# Altium schematic symbol library ep4ce10_Library.SchLib: 2 symbols
Pins are listed as number, name and electrical type; pins without a type are passive.

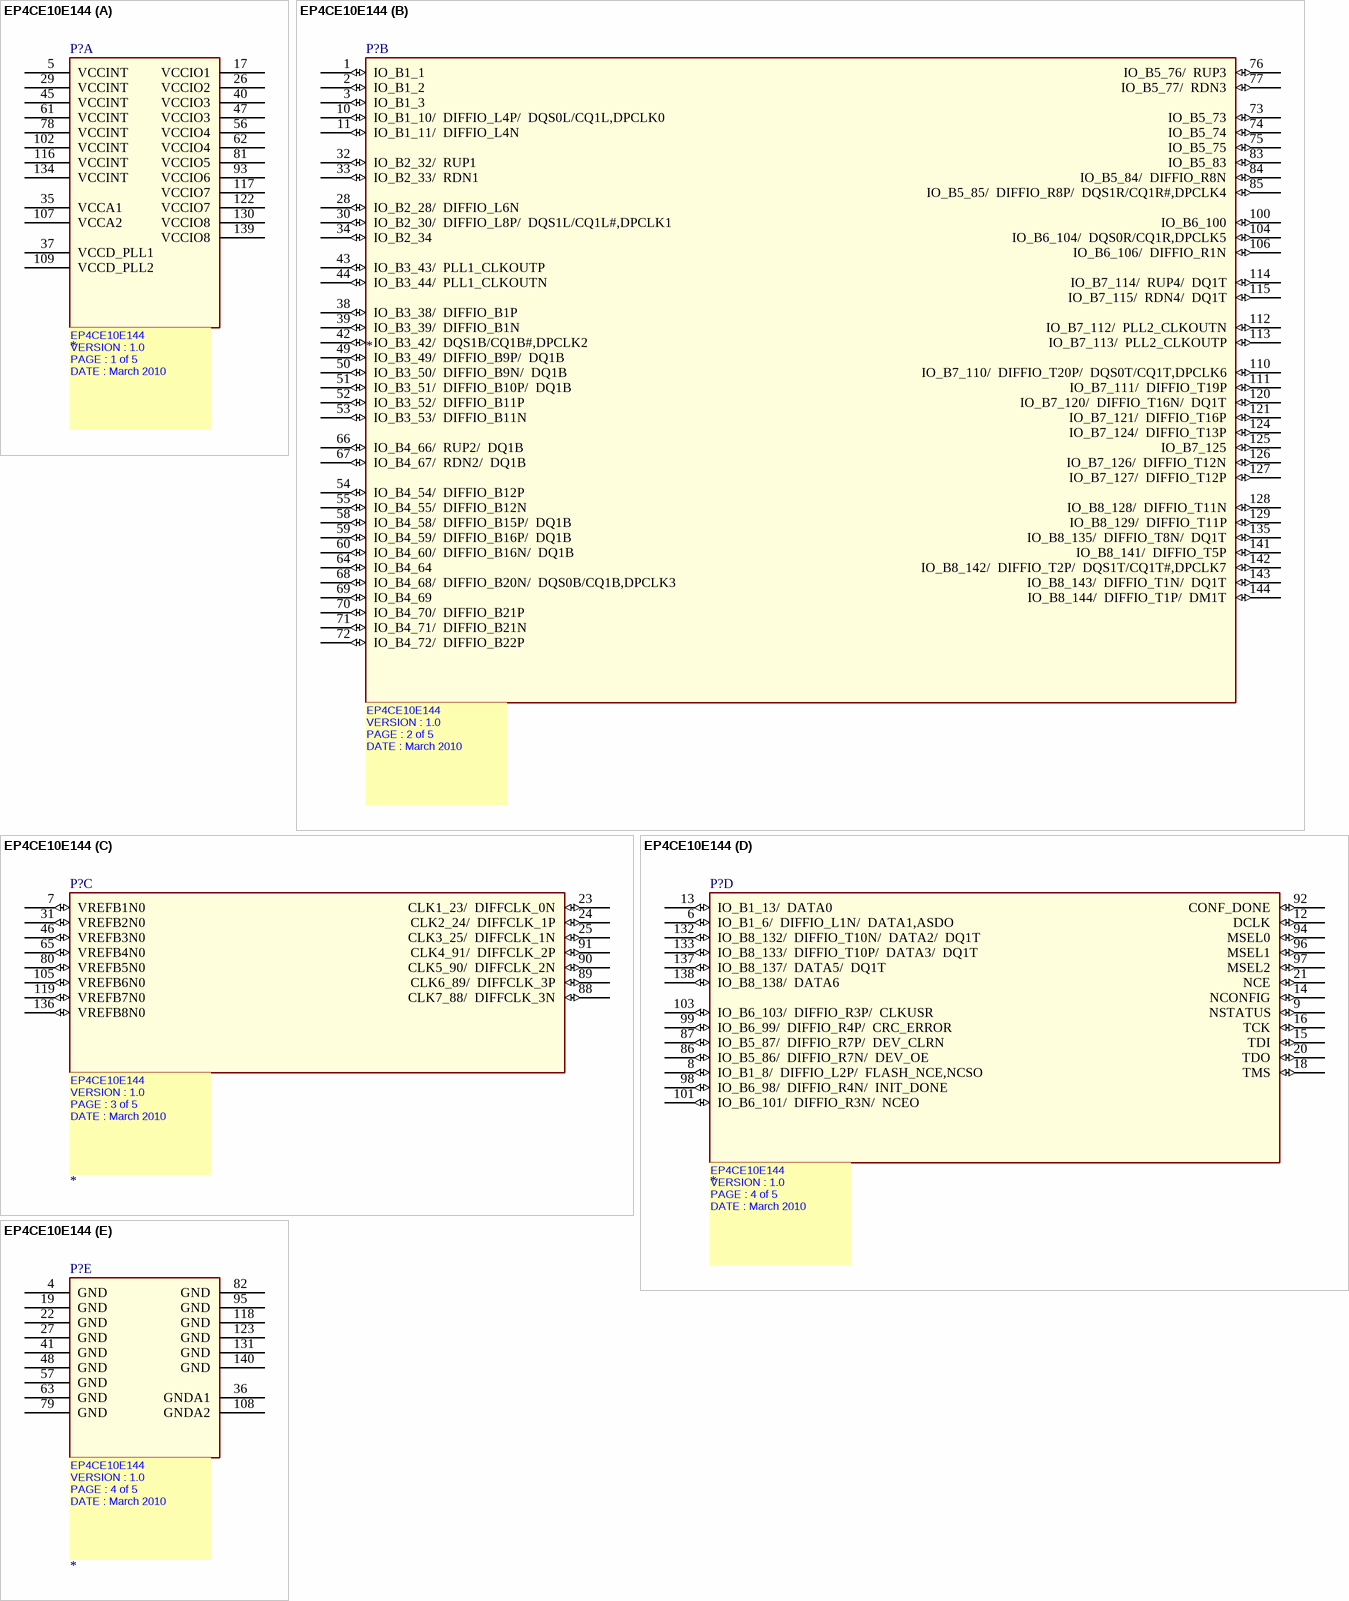
[diagram p0: symbol EP4CE10E144]

## EP4CE10E144
designator P?
SWAP_INFO: (S1+S2+S3+S4+S5); SPLIT_INST: TRUE
part A pins: 5 VCCINT (power), 17 VCCIO1 (power), 26 VCCIO2 (power), 29 VCCINT (power), 35 VCCA1 (power), 37 VCCD_PLL1 (power), 40 VCCIO3 (power), 45 VCCINT (power), 47 VCCIO3 (power), 56 VCCIO4 (power), 61 VCCINT (power), 62 VCCIO4 (power), 78 VCCINT (power), 81 VCCIO5 (power), 93 VCCIO6 (power), 102 VCCINT (power), 107 VCCA2 (power), 109 VCCD_PLL2 (power), 116 VCCINT (power), 117 VCCIO7 (power), 122 VCCIO7 (power), 130 VCCIO8 (power), 134 VCCINT (power), 139 VCCIO8 (power)
part B pins: 1 IO_B1_1 (io), 2 IO_B1_2 (io), 3 IO_B1_3 (io), 10 IO_B1_10/  DIFFIO_L4P/  DQS0L/CQ1L,DPCLK0 (io), 11 IO_B1_11/  DIFFIO_L4N (io), 28 IO_B2_28/  DIFFIO_L6N (io), 30 IO_B2_30/  DIFFIO_L8P/  DQS1L/CQ1L#,DPCLK1 (io), 32 IO_B2_32/  RUP1 (io), 33 IO_B2_33/  RDN1 (io), 34 IO_B2_34 (io), 38 IO_B3_38/  DIFFIO_B1P (io), 39 IO_B3_39/  DIFFIO_B1N (io), 42 IO_B3_42/  DQS1B/CQ1B#,DPCLK2 (io), 43 IO_B3_43/  PLL1_CLKOUTP (io), 44 IO_B3_44/  PLL1_CLKOUTN (io), 49 IO_B3_49/  DIFFIO_B9P/  DQ1B (io), 50 IO_B3_50/  DIFFIO_B9N/  DQ1B (io), 51 IO_B3_51/  DIFFIO_B10P/  DQ1B (io), 52 IO_B3_52/  DIFFIO_B11P (io), 53 IO_B3_53/  DIFFIO_B11N (io), 54 IO_B4_54/  DIFFIO_B12P (io), 55 IO_B4_55/  DIFFIO_B12N (io), 58 IO_B4_58/  DIFFIO_B15P/  DQ1B (io), 59 IO_B4_59/  DIFFIO_B16P/  DQ1B (io), 60 IO_B4_60/  DIFFIO_B16N/  DQ1B (io), 64 IO_B4_64 (io), 66 IO_B4_66/  RUP2/  DQ1B (io), 67 IO_B4_67/  RDN2/  DQ1B (io), 68 IO_B4_68/  DIFFIO_B20N/  DQS0B/CQ1B,DPCLK3 (io), 69 IO_B4_69 (io), 70 IO_B4_70/  DIFFIO_B21P (io), 71 IO_B4_71/  DIFFIO_B21N (io), 72 IO_B4_72/  DIFFIO_B22P (io), 73 IO_B5_73 (io), 74 IO_B5_74 (io), 75 IO_B5_75 (io), 76 IO_B5_76/  RUP3 (io), 77 IO_B5_77/  RDN3 (io), 83 IO_B5_83 (io), 84 IO_B5_84/  DIFFIO_R8N (io), 85 IO_B5_85/  DIFFIO_R8P/  DQS1R/CQ1R#,DPCLK4 (io), 100 IO_B6_100 (io), 104 IO_B6_104/  DQS0R/CQ1R,DPCLK5 (io), 106 IO_B6_106/  DIFFIO_R1N (io), 110 IO_B7_110/  DIFFIO_T20P/  DQS0T/CQ1T,DPCLK6 (io), 111 IO_B7_111/  DIFFIO_T19P (io), 112 IO_B7_112/  PLL2_CLKOUTN (io), 113 IO_B7_113/  PLL2_CLKOUTP (io), 114 IO_B7_114/  RUP4/  DQ1T (io), 115 IO_B7_115/  RDN4/  DQ1T (io), 120 IO_B7_120/  DIFFIO_T16N/  DQ1T (io), 121 IO_B7_121/  DIFFIO_T16P (io), 124 IO_B7_124/  DIFFIO_T13P (io), 125 IO_B7_125 (io), 126 IO_B7_126/  DIFFIO_T12N (io), 127 IO_B7_127/  DIFFIO_T12P (io), 128 IO_B8_128/  DIFFIO_T11N (io), 129 IO_B8_129/  DIFFIO_T11P (io), 135 IO_B8_135/  DIFFIO_T8N/  DQ1T (io), 141 IO_B8_141/  DIFFIO_T5P (io), 142 IO_B8_142/  DIFFIO_T2P/  DQS1T/CQ1T#,DPCLK7 (io), 143 IO_B8_143/  DIFFIO_T1N/  DQ1T (io), 144 IO_B8_144/  DIFFIO_T1P/  DM1T (io)
part C pins: 7 VREFB1N0 (io), 23 CLK1_23/  DIFFCLK_0N (io), 24 CLK2_24/  DIFFCLK_1P (io), 25 CLK3_25/  DIFFCLK_1N (io), 31 VREFB2N0 (io), 46 VREFB3N0 (io), 65 VREFB4N0 (io), 80 VREFB5N0 (io), 88 CLK7_88/  DIFFCLK_3N (io), 89 CLK6_89/  DIFFCLK_3P (io), 90 CLK5_90/  DIFFCLK_2N (io), 91 CLK4_91/  DIFFCLK_2P (io), 105 VREFB6N0 (io), 119 VREFB7N0 (io), 136 VREFB8N0 (io)
part D pins: 6 IO_B1_6/  DIFFIO_L1N/  DATA1,ASDO (io), 8 IO_B1_8/  DIFFIO_L2P/  FLASH_NCE,NCSO (io), 9 NSTATUS (io), 12 DCLK (io), 13 IO_B1_13/  DATA0 (io), 14 NCONFIG (io), 15 TDI (io), 16 TCK (io), 18 TMS (io), 20 TDO (io), 21 NCE (io), 86 IO_B5_86/  DIFFIO_R7N/  DEV_OE (io), 87 IO_B5_87/  DIFFIO_R7P/  DEV_CLRN (io), 92 CONF_DONE (io), 94 MSEL0 (io), 96 MSEL1 (io), 97 MSEL2 (io), 98 IO_B6_98/  DIFFIO_R4N/  INIT_DONE (io), 99 IO_B6_99/  DIFFIO_R4P/  CRC_ERROR (io), 101 IO_B6_101/  DIFFIO_R3N/  NCEO (io), 103 IO_B6_103/  DIFFIO_R3P/  CLKUSR (io), 132 IO_B8_132/  DIFFIO_T10N/  DATA2/  DQ1T (io), 133 IO_B8_133/  DIFFIO_T10P/  DATA3/  DQ1T (io), 137 IO_B8_137/  DATA5/  DQ1T (io), 138 IO_B8_138/  DATA6 (io)
part E pins: 4 GND (power), 19 GND (power), 22 GND (power), 27 GND (power), 36 GNDA1 (power), 41 GND (power), 48 GND (power), 57 GND (power), 63 GND (power), 79 GND (power), 82 GND (power), 95 GND (power), 108 GNDA2 (power), 118 GND (power), 123 GND (power), 131 GND (power), 140 GND (power)
part A text: EP4CE10E144 / VERSION : 1.0 / PAGE : 1 of 5 / DATE : March 2010 /
part B text: EP4CE10E144 / VERSION : 1.0 / PAGE : 2 of 5 / DATE : March 2010 /
part C text: EP4CE10E144 / VERSION : 1.0 / PAGE : 3 of 5 / DATE : March 2010 /
part D text: EP4CE10E144 / VERSION : 1.0 / PAGE : 4 of 5 / DATE : March 2010 /
part E text: EP4CE10E144 / VERSION : 1.0 / PAGE : 4 of 5 / DATE : March 2010 /

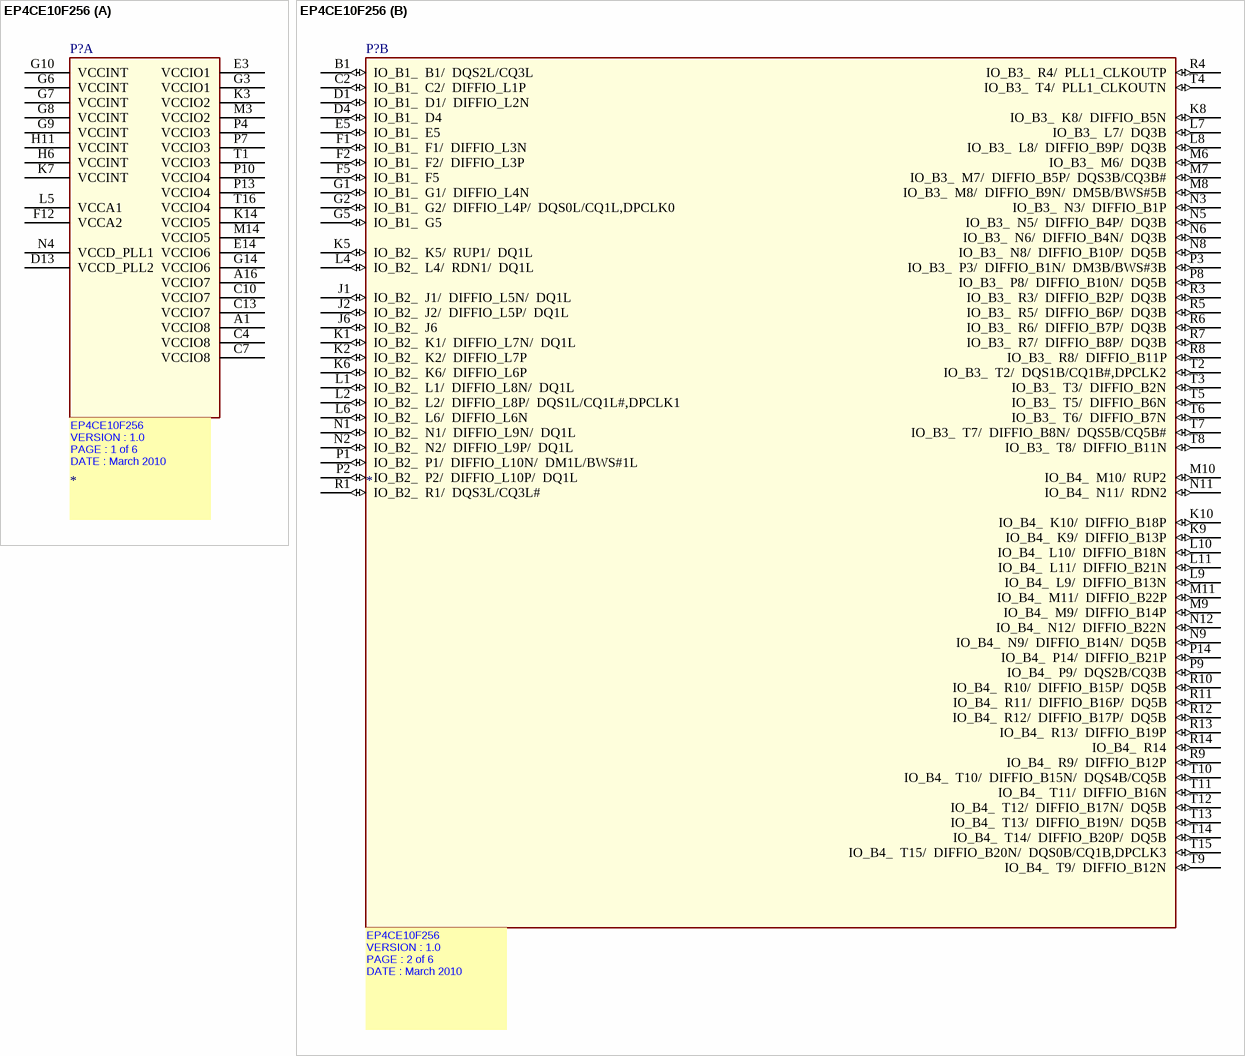
[diagram p1: symbol EP4CE10F256]

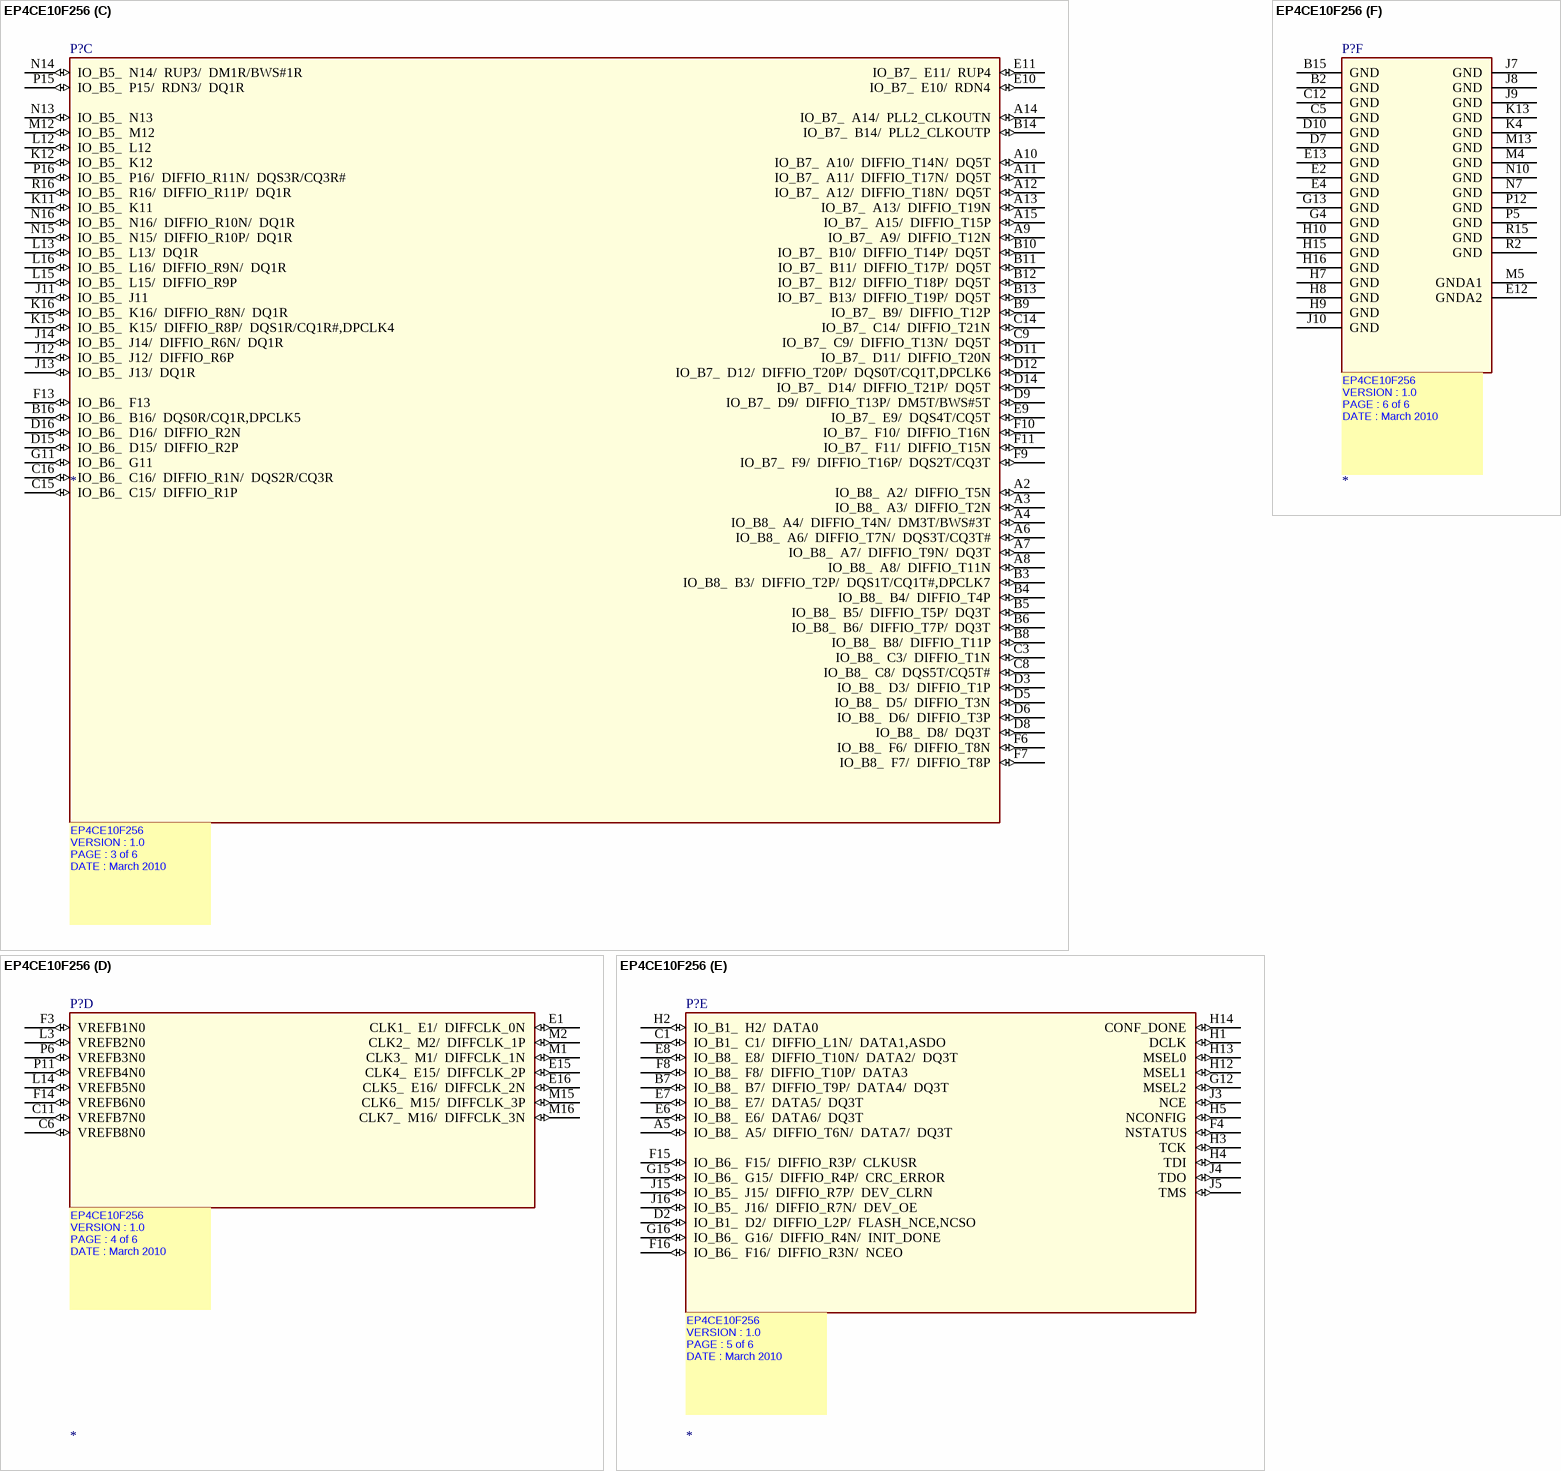
[diagram p2: symbol EP4CE10F256]

## EP4CE10F256
designator P?
SPLIT_INST: TRUE; SWAP_INFO: (S1+S2+S3+S4+S5+S6)
part A pins: A1 VCCIO8 (power), A16 VCCIO7 (power), C4 VCCIO8 (power), C7 VCCIO8 (power), C10 VCCIO7 (power), C13 VCCIO7 (power), D13 VCCD_PLL2 (power), E3 VCCIO1 (power), E14 VCCIO6 (power), F12 VCCA2 (power), G3 VCCIO1 (power), G6 VCCINT (power), G7 VCCINT (power), G8 VCCINT (power), G9 VCCINT (power), G10 VCCINT (power), G14 VCCIO6 (power), H6 VCCINT (power), H11 VCCINT (power), K3 VCCIO2 (power), K7 VCCINT (power), K14 VCCIO5 (power), L5 VCCA1 (power), M3 VCCIO2 (power), M14 VCCIO5 (power), N4 VCCD_PLL1 (power), P4 VCCIO3 (power), P7 VCCIO3 (power), P10 VCCIO4 (power), P13 VCCIO4 (power), T1 VCCIO3 (power), T16 VCCIO4 (power)
part B pins: B1 IO_B1_  B1/  DQS2L/CQ3L (io), C2 IO_B1_  C2/  DIFFIO_L1P (io), D1 IO_B1_  D1/  DIFFIO_L2N (io), D4 IO_B1_  D4 (io), E5 IO_B1_  E5 (io), F1 IO_B1_  F1/  DIFFIO_L3N (io), F2 IO_B1_  F2/  DIFFIO_L3P (io), F5 IO_B1_  F5 (io), G1 IO_B1_  G1/  DIFFIO_L4N (io), G2 IO_B1_  G2/  DIFFIO_L4P/  DQS0L/CQ1L,DPCLK0 (io), G5 IO_B1_  G5 (io), J1 IO_B2_  J1/  DIFFIO_L5N/  DQ1L (io), J2 IO_B2_  J2/  DIFFIO_L5P/  DQ1L (io), J6 IO_B2_  J6 (io), K1 IO_B2_  K1/  DIFFIO_L7N/  DQ1L (io), K2 IO_B2_  K2/  DIFFIO_L7P (io), K5 IO_B2_  K5/  RUP1/  DQ1L (io), K6 IO_B2_  K6/  DIFFIO_L6P (io), K8 IO_B3_  K8/  DIFFIO_B5N (io), K9 IO_B4_  K9/  DIFFIO_B13P (io), K10 IO_B4_  K10/  DIFFIO_B18P (io), L1 IO_B2_  L1/  DIFFIO_L8N/  DQ1L (io), L2 IO_B2_  L2/  DIFFIO_L8P/  DQS1L/CQ1L#,DPCLK1 (io), L4 IO_B2_  L4/  RDN1/  DQ1L (io), L6 IO_B2_  L6/  DIFFIO_L6N (io), L7 IO_B3_  L7/  DQ3B (io), L8 IO_B3_  L8/  DIFFIO_B9P/  DQ3B (io), L9 IO_B4_  L9/  DIFFIO_B13N (io), L10 IO_B4_  L10/  DIFFIO_B18N (io), L11 IO_B4_  L11/  DIFFIO_B21N (io), M6 IO_B3_  M6/  DQ3B (io), M7 IO_B3_  M7/  DIFFIO_B5P/  DQS3B/CQ3B# (io), M8 IO_B3_  M8/  DIFFIO_B9N/  DM5B/BWS#5B (io), M9 IO_B4_  M9/  DIFFIO_B14P (io), M10 IO_B4_  M10/  RUP2 (io), M11 IO_B4_  M11/  DIFFIO_B22P (io), N1 IO_B2_  N1/  DIFFIO_L9N/  DQ1L (io), N2 IO_B2_  N2/  DIFFIO_L9P/  DQ1L (io), N3 IO_B3_  N3/  DIFFIO_B1P (io), N5 IO_B3_  N5/  DIFFIO_B4P/  DQ3B (io), N6 IO_B3_  N6/  DIFFIO_B4N/  DQ3B (io), N8 IO_B3_  N8/  DIFFIO_B10P/  DQ5B (io), N9 IO_B4_  N9/  DIFFIO_B14N/  DQ5B (io), N11 IO_B4_  N11/  RDN2 (io), N12 IO_B4_  N12/  DIFFIO_B22N (io), P1 IO_B2_  P1/  DIFFIO_L10N/  DM1L/BWS#1L (io), P2 IO_B2_  P2/  DIFFIO_L10P/  DQ1L (io), P3 IO_B3_  P3/  DIFFIO_B1N/  DM3B/BWS#3B (io), P8 IO_B3_  P8/  DIFFIO_B10N/  DQ5B (io), P9 IO_B4_  P9/  DQS2B/CQ3B (io), P14 IO_B4_  P14/  DIFFIO_B21P (io), R1 IO_B2_  R1/  DQS3L/CQ3L# (io), R3 IO_B3_  R3/  DIFFIO_B2P/  DQ3B (io), R4 IO_B3_  R4/  PLL1_CLKOUTP (io), R5 IO_B3_  R5/  DIFFIO_B6P/  DQ3B (io), R6 IO_B3_  R6/  DIFFIO_B7P/  DQ3B (io), R7 IO_B3_  R7/  DIFFIO_B8P/  DQ3B (io), R8 IO_B3_  R8/  DIFFIO_B11P (io), R9 IO_B4_  R9/  DIFFIO_B12P (io), R10 IO_B4_  R10/  DIFFIO_B15P/  DQ5B (io), R11 IO_B4_  R11/  DIFFIO_B16P/  DQ5B (io), R12 IO_B4_  R12/  DIFFIO_B17P/  DQ5B (io), R13 IO_B4_  R13/  DIFFIO_B19P (io), R14 IO_B4_  R14 (io), T2 IO_B3_  T2/  DQS1B/CQ1B#,DPCLK2 (io), T3 IO_B3_  T3/  DIFFIO_B2N (io), T4 IO_B3_  T4/  PLL1_CLKOUTN (io), T5 IO_B3_  T5/  DIFFIO_B6N (io), T6 IO_B3_  T6/  DIFFIO_B7N (io), T7 IO_B3_  T7/  DIFFIO_B8N/  DQS5B/CQ5B# (io), T8 IO_B3_  T8/  DIFFIO_B11N (io), T9 IO_B4_  T9/  DIFFIO_B12N (io), T10 IO_B4_  T10/  DIFFIO_B15N/  DQS4B/CQ5B (io), T11 IO_B4_  T11/  DIFFIO_B16N (io), T12 IO_B4_  T12/  DIFFIO_B17N/  DQ5B (io), T13 IO_B4_  T13/  DIFFIO_B19N/  DQ5B (io), T14 IO_B4_  T14/  DIFFIO_B20P/  DQ5B (io), T15 IO_B4_  T15/  DIFFIO_B20N/  DQS0B/CQ1B,DPCLK3 (io)
part C pins: A2 IO_B8_  A2/  DIFFIO_T5N (io), A3 IO_B8_  A3/  DIFFIO_T2N (io), A4 IO_B8_  A4/  DIFFIO_T4N/  DM3T/BWS#3T (io), A6 IO_B8_  A6/  DIFFIO_T7N/  DQS3T/CQ3T# (io), A7 IO_B8_  A7/  DIFFIO_T9N/  DQ3T (io), A8 IO_B8_  A8/  DIFFIO_T11N (io), A9 IO_B7_  A9/  DIFFIO_T12N (io), A10 IO_B7_  A10/  DIFFIO_T14N/  DQ5T (io), A11 IO_B7_  A11/  DIFFIO_T17N/  DQ5T (io), A12 IO_B7_  A12/  DIFFIO_T18N/  DQ5T (io), A13 IO_B7_  A13/  DIFFIO_T19N (io), A14 IO_B7_  A14/  PLL2_CLKOUTN (io), A15 IO_B7_  A15/  DIFFIO_T15P (io), B3 IO_B8_  B3/  DIFFIO_T2P/  DQS1T/CQ1T#,DPCLK7 (io), B4 IO_B8_  B4/  DIFFIO_T4P (io), B5 IO_B8_  B5/  DIFFIO_T5P/  DQ3T (io), B6 IO_B8_  B6/  DIFFIO_T7P/  DQ3T (io), B8 IO_B8_  B8/  DIFFIO_T11P (io), B9 IO_B7_  B9/  DIFFIO_T12P (io), B10 IO_B7_  B10/  DIFFIO_T14P/  DQ5T (io), B11 IO_B7_  B11/  DIFFIO_T17P/  DQ5T (io), B12 IO_B7_  B12/  DIFFIO_T18P/  DQ5T (io), B13 IO_B7_  B13/  DIFFIO_T19P/  DQ5T (io), B14 IO_B7_  B14/  PLL2_CLKOUTP (io), B16 IO_B6_  B16/  DQS0R/CQ1R,DPCLK5 (io), C3 IO_B8_  C3/  DIFFIO_T1N (io), C8 IO_B8_  C8/  DQS5T/CQ5T# (io), C9 IO_B7_  C9/  DIFFIO_T13N/  DQ5T (io), C14 IO_B7_  C14/  DIFFIO_T21N (io), C15 IO_B6_  C15/  DIFFIO_R1P (io), C16 IO_B6_  C16/  DIFFIO_R1N/  DQS2R/CQ3R (io), D3 IO_B8_  D3/  DIFFIO_T1P (io), D5 IO_B8_  D5/  DIFFIO_T3N (io), D6 IO_B8_  D6/  DIFFIO_T3P (io), D8 IO_B8_  D8/  DQ3T (io), D9 IO_B7_  D9/  DIFFIO_T13P/  DM5T/BWS#5T (io), D11 IO_B7_  D11/  DIFFIO_T20N (io), D12 IO_B7_  D12/  DIFFIO_T20P/  DQS0T/CQ1T,DPCLK6 (io), D14 IO_B7_  D14/  DIFFIO_T21P/  DQ5T (io), D15 IO_B6_  D15/  DIFFIO_R2P (io), D16 IO_B6_  D16/  DIFFIO_R2N (io), E9 IO_B7_  E9/  DQS4T/CQ5T (io), E10 IO_B7_  E10/  RDN4 (io), E11 IO_B7_  E11/  RUP4 (io), F6 IO_B8_  F6/  DIFFIO_T8N (io), F7 IO_B8_  F7/  DIFFIO_T8P (io), F9 IO_B7_  F9/  DIFFIO_T16P/  DQS2T/CQ3T (io), F10 IO_B7_  F10/  DIFFIO_T16N (io), F11 IO_B7_  F11/  DIFFIO_T15N (io), F13 IO_B6_  F13 (io), G11 IO_B6_  G11 (io), J11 IO_B5_  J11 (io), J12 IO_B5_  J12/  DIFFIO_R6P (io), J13 IO_B5_  J13/  DQ1R (io), J14 IO_B5_  J14/  DIFFIO_R6N/  DQ1R (io), K11 IO_B5_  K11 (io), K12 IO_B5_  K12 (io), K15 IO_B5_  K15/  DIFFIO_R8P/  DQS1R/CQ1R#,DPCLK4 (io), K16 IO_B5_  K16/  DIFFIO_R8N/  DQ1R (io), L12 IO_B5_  L12 (io), L13 IO_B5_  L13/  DQ1R (io), L15 IO_B5_  L15/  DIFFIO_R9P (io), L16 IO_B5_  L16/  DIFFIO_R9N/  DQ1R (io), M12 IO_B5_  M12 (io), N13 IO_B5_  N13 (io), N14 IO_B5_  N14/  RUP3/  DM1R/BWS#1R (io), N15 IO_B5_  N15/  DIFFIO_R10P/  DQ1R (io), N16 IO_B5_  N16/  DIFFIO_R10N/  DQ1R (io), P15 IO_B5_  P15/  RDN3/  DQ1R (io), P16 IO_B5_  P16/  DIFFIO_R11N/  DQS3R/CQ3R# (io), R16 IO_B5_  R16/  DIFFIO_R11P/  DQ1R (io)
part D pins: C6 VREFB8N0 (io), C11 VREFB7N0 (io), E1 CLK1_  E1/  DIFFCLK_0N (io), E15 CLK4_  E15/  DIFFCLK_2P (io), E16 CLK5_  E16/  DIFFCLK_2N (io), F3 VREFB1N0 (io), F14 VREFB6N0 (io), L3 VREFB2N0 (io), L14 VREFB5N0 (io), M1 CLK3_  M1/  DIFFCLK_1N (io), M2 CLK2_  M2/  DIFFCLK_1P (io), M15 CLK6_  M15/  DIFFCLK_3P (io), M16 CLK7_  M16/  DIFFCLK_3N (io), P6 VREFB3N0 (io), P11 VREFB4N0 (io)
part E pins: A5 IO_B8_  A5/  DIFFIO_T6N/  DATA7/  DQ3T (io), B7 IO_B8_  B7/  DIFFIO_T9P/  DATA4/  DQ3T (io), C1 IO_B1_  C1/  DIFFIO_L1N/  DATA1,ASDO (io), D2 IO_B1_  D2/  DIFFIO_L2P/  FLASH_NCE,NCSO (io), E6 IO_B8_  E6/  DATA6/  DQ3T (io), E7 IO_B8_  E7/  DATA5/  DQ3T (io), E8 IO_B8_  E8/  DIFFIO_T10N/  DATA2/  DQ3T (io), F4 NSTATUS (io), F8 IO_B8_  F8/  DIFFIO_T10P/  DATA3 (io), F15 IO_B6_  F15/  DIFFIO_R3P/  CLKUSR (io), F16 IO_B6_  F16/  DIFFIO_R3N/  NCEO (io), G12 MSEL2 (io), G15 IO_B6_  G15/  DIFFIO_R4P/  CRC_ERROR (io), G16 IO_B6_  G16/  DIFFIO_R4N/  INIT_DONE (io), H1 DCLK (io), H2 IO_B1_  H2/  DATA0 (io), H3 TCK (io), H4 TDI (io), H5 NCONFIG (io), H12 MSEL1 (io), H13 MSEL0 (io), H14 CONF_DONE (io), J3 NCE (io), J4 TDO (io), J5 TMS (io), J15 IO_B5_  J15/  DIFFIO_R7P/  DEV_CLRN (io), J16 IO_B5_  J16/  DIFFIO_R7N/  DEV_OE (io)
part F pins: B2 GND (power), B15 GND (power), C5 GND (power), C12 GND (power), D7 GND (power), D10 GND (power), E2 GND (power), E4 GND (power), E12 GNDA2 (power), E13 GND (power), G4 GND (power), G13 GND (power), H7 GND (power), H8 GND (power), H9 GND (power), H10 GND (power), H15 GND (power), H16 GND (power), J7 GND (power), J8 GND (power), J9 GND (power), J10 GND (power), K4 GND (power), K13 GND (power), M4 GND (power), M5 GNDA1 (power), M13 GND (power), N7 GND (power), N10 GND (power), P5 GND (power), P12 GND (power), R2 GND (power), R15 GND (power)
part A text: EP4CE10F256 / VERSION : 1.0 / PAGE : 1 of 6 / DATE : March 2010 /
part B text: EP4CE10F256 / VERSION : 1.0 / PAGE : 2 of 6 / DATE : March 2010 /
part C text: EP4CE10F256 / VERSION : 1.0 / PAGE : 3 of 6 / DATE : March 2010 /
part D text: EP4CE10F256 / VERSION : 1.0 / PAGE : 4 of 6 / DATE : March 2010 /
part E text: EP4CE10F256 / VERSION : 1.0 / PAGE : 5 of 6 / DATE : March 2010 /
part F text: EP4CE10F256 / VERSION : 1.0 / PAGE : 6 of 6 / DATE : March 2010 /